# Altium schematic symbol library boost_converter_Schlib1.SchLib: 1 symbol
Pins are listed as number, name and electrical type; pins without a type are passive.

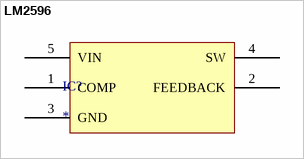
[diagram p0: symbol LM2596]

## LM2596
designator IC?
REGULATOR  DC TO DC ,DUCK CONVERTER
footprint D2PAK
pins: 1 COMP, 2 FEEDBACK, 3 GND, 4 SW, 5 VIN